# Altium footprint library sw108-10.25.PcbLib: 18 footprints (part 2 of 2)
Each footprint in its own frame and in the unit in brackets; x right, y up, seen from the top. Pads: shape width x height; smd on the part's side, far side on the other; paste and mask are expansions set on the pad; w line width, h text height; cw(c..) or ccw(c..) is an arc to the next point about the centre after c.
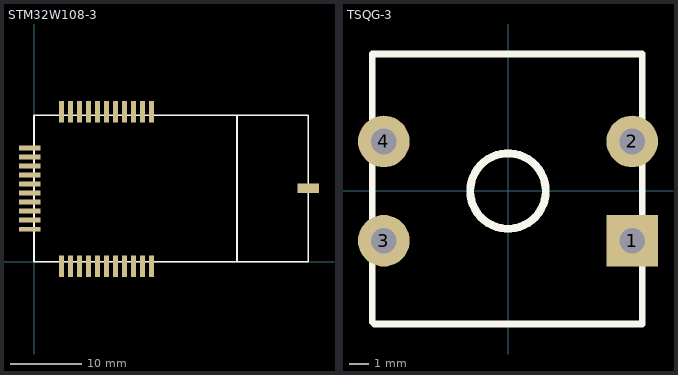
[diagram p1: the footprints below, top view; thin cyan lines are the x and y axes]

## STM32W108-3 [mm]
height 6.86
pads (33):
  rect 0.7x3 smd: 1(16.51,21.074) 2(15.24,21.074) 3(13.97,21.074) 4(12.7,21.074) 5(11.43,21.074) 6(10.16,21.074) 7(8.89,21.074) 8(7.62,21.074) 9(6.35,21.074) 10(5.08,21.074) 11(3.81,21.074) 22(3.81,-0.627) 23(5.08,-0.627) 24(6.35,-0.627) 25(7.62,-0.627) 26(8.89,-0.627) 27(10.16,-0.627) 28(11.43,-0.627) 29(12.7,-0.627) 30(13.97,-0.627) 31(15.24,-0.627) 32(16.51,-0.627)
  rect 3x0.7 smd: 12(-0.627,16.002) 13(-0.627,14.732) 14(-0.627,13.462) 15(-0.627,12.192) 16(-0.627,10.922) 17(-0.627,9.652) 18(-0.627,8.382) 19(-0.627,7.112) 20(-0.627,5.842) 21(-0.627,4.572)
  rect 3x1.3 smd: ""(38.5,10.314)
Top Overlay:
  lines w0.254: 0,0 28.5,0 38.5,0 38.5,20.5 ; 0,0.074 0,20.574 28.5,20.574 28.5,0.074 ; 28.481,20.574 38.481,20.574

## TSQG-3 [mm]
height 4
pads (4):
  rect 2.6x2.6 hole 1.3: 1(6.248,-2.515)
  round 2.6 hole 1.3: 2(6.248,2.485) 3(-6.252,-2.515) 4(-6.252,2.485)
Top Overlay:
  circle w0.4: c-0.002,-0.015 r1.9
  lines w0.33: -6.833,-6.617 -6.833,6.883 6.667,6.883 ; -6.744,-6.706 6.756,-6.706 ; 6.756,-6.617 6.756,6.883